# Altium schematic symbol library iMX287.SchLib: 1 symbol
Pins are listed as number, name and electrical type; pins without a type are passive.

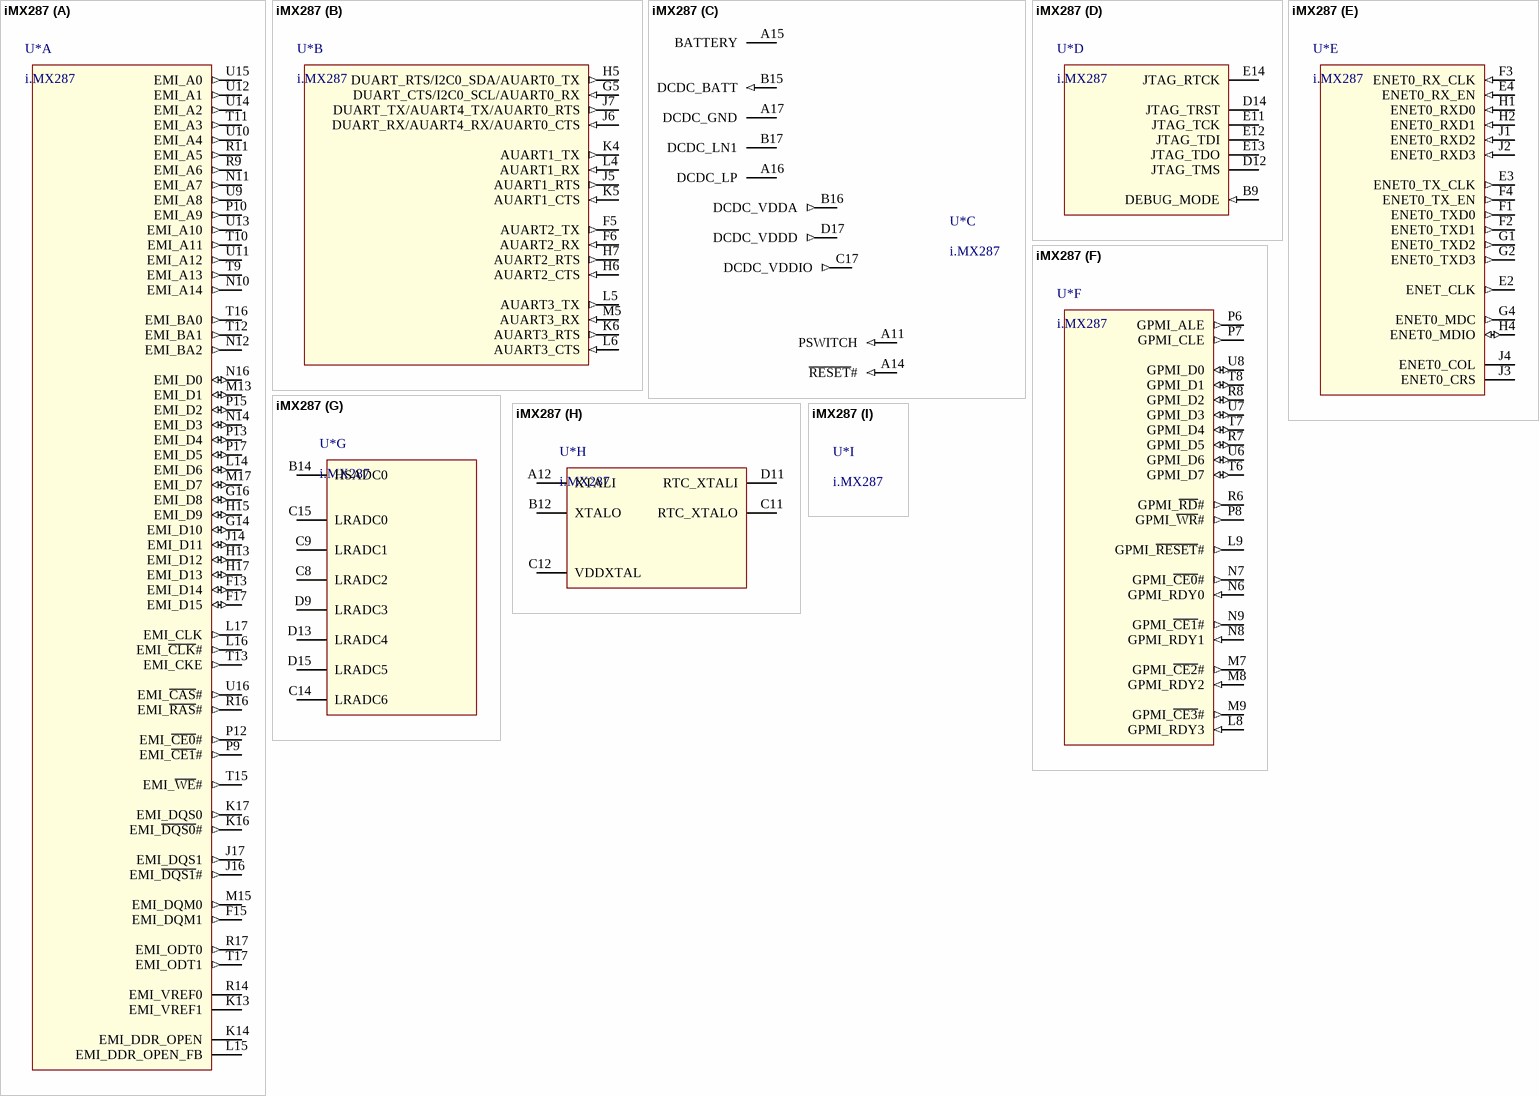
[diagram p0: symbol iMX287]

## iMX287
designator U*, comment i.MX287
Applications Processor
footprint BGA-289-14x04-0.8
part A pins: F13 EMI_D14 (io), F15 EMI_DQM1 (out), F17 EMI_D15 (io), G14 EMI_D10 (io), G16 EMI_D8 (io), H13 EMI_D12 (io), H15 EMI_D9 (io), H17 EMI_D13 (io), J14 EMI_D11 (io), J16 EMI_~{DQS1}# (out), J17 EMI_DQS1 (out), K13 EMI_VREF1, K14 EMI_DDR_OPEN, K16 EMI_~{DQS0}# (out), K17 EMI_DQS0 (out), L14 EMI_D6 (io), L15 EMI_DDR_OPEN_FB, L16 EMI_~{CLK}# (out), L17 EMI_CLK (out), M13 EMI_D1 (io), M15 EMI_DQM0 (out), M17 EMI_D7 (io), N10 EMI_A14 (out), N11 EMI_A7 (out), N12 EMI_BA2 (out), N14 EMI_D3 (io), N16 EMI_D0 (io), P9 EMI_~{CE1}# (out), P10 EMI_A9 (out), P12 EMI_~{CE0}# (out), P13 EMI_D4 (io), P15 EMI_D2 (io), P17 EMI_D5 (io), R9 EMI_A6 (out), R11 EMI_A5 (out), R14 EMI_VREF0, R16 EMI_~{RAS}# (out), R17 EMI_ODT0 (out), T9 EMI_A13 (out), T10 EMI_A11 (out), T11 EMI_A3 (out), T12 EMI_BA1 (out), T13 EMI_CKE (out), T15 EMI_~{WE}# (out), T16 EMI_BA0 (out), T17 EMI_ODT1 (out), U9 EMI_A8 (out), U10 EMI_A4 (out), U11 EMI_A12 (out), U12 EMI_A1 (out), U13 EMI_A10 (out), U14 EMI_A2 (out), U15 EMI_A0 (out), U16 EMI_~{CAS}# (out)
part B pins: F5 AUART2_TX (out), F6 AUART2_RX (in), G5 DUART_CTS/I2C0_SCL/AUART0_RX (in), H5 DUART_RTS/I2C0_SDA/AUART0_TX (out), H6 AUART2_CTS (in), H7 AUART2_RTS (out), J5 AUART1_RTS (out), J6 DUART_RX/AUART4_RX/AUART0_CTS (in), J7 DUART_TX/AUART4_TX/AUART0_RTS (out), K4 AUART1_TX (out), K5 AUART1_CTS (in), K6 AUART3_RTS (out), L4 AUART1_RX (in), L5 AUART3_TX (out), L6 AUART3_CTS (in), M5 AUART3_RX (in)
part C pins: A11 PSWITCH (in) "Power On / Recovery / Software Visible", A14 ~{RESET}# (in) "Chip-wide Reset In", A15 BATTERY (power) "Battery Input", A16 DCDC_LP (power) "DCDC Inductor LP", A17 DCDC_GND (power), B15 DCDC_BATT (in) "DCDC Battery Input", B16 DCDC_VDDA (out) "DCDC Analog 1.8V Power Output", B17 DCDC_LN1 (power) "DCDC Inductor LN1", C17 DCDC_VDDIO (out) "DCDC 3.3V I/O Power Output", D17 DCDC_VDDD (out) "DCDC Digital Core Power Output"
part D pins: B9 DEBUG_MODE (in) "JTAG/DEBUG mode selection", D12 JTAG_TMS "JTAG Test Mode Select", D14 JTAG_TRST "JTAG Reset", E11 JTAG_TCK "JTAG Clock", E12 JTAG_TDI "JTAG Serial Data In", E13 JTAG_TDO "JTAG Serial Data Out", E14 JTAG_RTCK "JTAG Clock"
part E pins: E2 ENET_CLK (out) "ENET Clock Output", E3 ENET0_TX_CLK (out) "ENET Receive Clock - MII", E4 ENET0_RX_EN (in) "ENET Receive Enable / Data Valid", F1 ENET0_TXD0 (out), F2 ENET0_TXD1 (out), F3 ENET0_RX_CLK (in) "ENET Receive Clock - MII", F4 ENET0_TX_EN (out), G1 ENET0_TXD2 (out), G2 ENET0_TXD3 (out), G4 ENET0_MDC (out) "ENET Serial Management data clock", H1 ENET0_RXD0 (in), H2 ENET0_RXD1 (in), H4 ENET0_MDIO (io) "ENET Serial Management data I/O", J1 ENET0_RXD2 (in), J2 ENET0_RXD3 (in), J3 ENET0_CRS "ENET Carrier Sense - MII", J4 ENET0_COL "ENET Collision Detect - MII"
part F pins: L8 GPMI_RDY3 (in), L9 GPMI_~{RESET}# (out) "NAND Write Protect", M7 GPMI_~{CE2}# (out) "NAND Chip Enable 2", M8 GPMI_RDY2 (in), M9 GPMI_~{CE3}# (out) "NAND Chip Enable 3", N6 GPMI_RDY0 (in), N7 GPMI_~{CE0}# (out) "NAND Chip Enable 0", N8 GPMI_RDY1 (in), N9 GPMI_~{CE1}# (out) "NAND Chip Enable 1", P6 GPMI_ALE (out), P7 GPMI_CLE (out), P8 GPMI_~{WR}# (out), R6 GPMI_~{RD}# (out) "NAND Read Strobe", R7 GPMI_D5 (io), R8 GPMI_D2 (io), T6 GPMI_D7 (io), T7 GPMI_D4 (io), T8 GPMI_D1 (io), U6 GPMI_D6 (io), U7 GPMI_D3 (io), U8 GPMI_D0 (io)
part G pins: B14 HSADC0, C8 LRADC2, C9 LRADC1, C14 LRADC6, C15 LRADC0, D9 LRADC3, D13 LRADC4, D15 LRADC5
part H pins: A12 XTALI "24MHz Crystal In", B12 XTALO "24MHz Crystal Out", C11 RTC_XTALO "32.768 or 32.0 KHz Xtal Out", C12 VDDXTAL (power) "Crystal Power Filter Capacitor", D11 RTC_XTALI "32.768 or 32.0 KHz Xtal In"